# Altium integrated library Testpoint.IntLib: 4 symbols
Pins are listed as number, name and electrical type; pins without a type are passive.

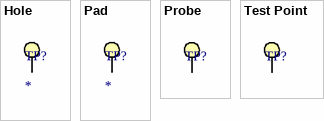
[diagram p0: symbols Hole to Test Point]

## Hole
designator TP?  (no BOM)
Hole; Value: *
footprint Hole 0.8 D1.5 (Test Point Hole 0.8 Pad diameter 1.5)
footprint Hole 1.0 D2.0 (Test Point Hole 1.0 Pad diameter 2.0)
footprint Hole 0.25 D0.8 (Test Point Hole 0.25 Pad diameter 0.8)
pins: 1

## Pad
designator TP?  (no BOM)
Pad; Value: *
footprint Pad 3.0x1.5 (Test Point simple pad Squarre 3.0x1.5, no hole)
footprint Pad D0.8 (Test Point simple pad diameter 0.8, no hole)
footprint Pad 0.5X0.5 (Test Point simple pad Squarre 0.5X0.5mm, no hole)
footprint Pad D1.5 (Test Point simple pad diameter 1.5, no hole)
footprint Pad D2.0 (Test Point simple pad diameter 2.0, no hole)
pins: 1

## Probe
designator TP?  (value not drawn)
Probe; Value: *
footprint Probe Interconnect Devices 101050-005
footprint Probe  Mill-Max 0906-3-53-20-75-14-11-0
footprint Probe  Mill-Max 0914-3-15-20-77-14-11-0 (Probe Mill-Max 0914-3-15-20-77-14-11-0)
pins: 1

## Test Point
designator TP?  (value not drawn)
Test Point; Value: *
footprint Test Point Keystone Compact BLACK
footprint Test Point Keystone Compact RED (Test Point Keystone Compact)
footprint Test Point Keystone Miniature BLACK
footprint Test Point Keystone Miniature RED
footprint Test Point Vogt 1016L.68M
footprint Test Point ARWIN S1751-46R
footprint Test Point ARWIN S2761-46R
pins: 1